# Altium schematic symbol library radxa_c200_io_board_v1.11_Library.SchLib: 111 symbols (part 2 of 2)
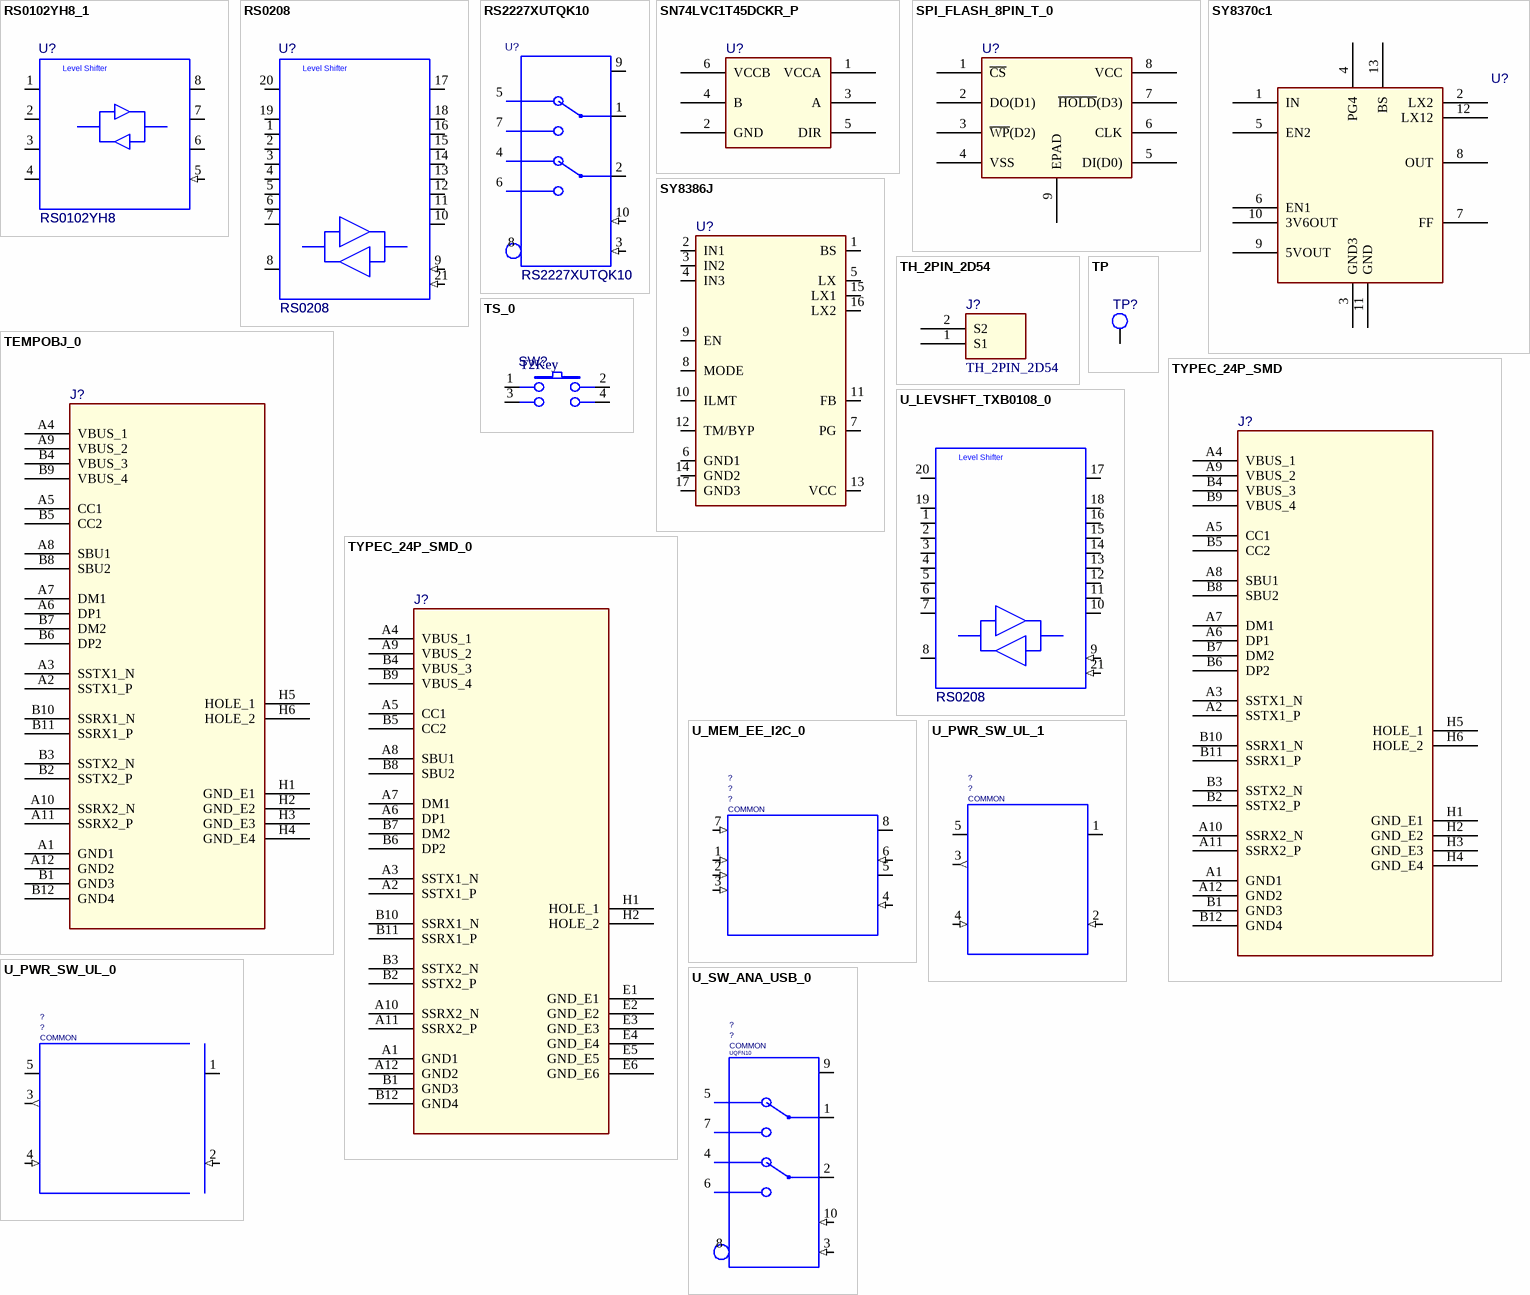
[diagram p14: symbols RS0102YH8_1 to U_SW_ANA_USB_0]

## RS0208
designator U?
OriginalSymbolOrigin: (-250,350); CDS_LMAN_SYM_OUTLINE: -250,350,250,-450; SKU: COMMON; PLACEMENT_NOTE: ?; PATH: ?; PACK_TYPE: ?; NV_PN: ?; NV_NAME: ?; FUNCTION: ?; ASSEMBLY: ?; Value: RS0208
footprint QFN20_0D4_3
pins: 1 A2 (io), 2 A3 (io), 3 A4 (io), 4 A5 (io), 5 A6 (io), 6 A7 (io), 7 A8 (io), 8 OE (io), 9 GND (in), 10 B8 (io), 11 B7 (io), 12 B6 (io), 13 B5 (io), 14 B4 (io), 15 B3 (io), 16 B2 (io), 17 VCCB (power), 18 B1 (io), 19 A1 (io), 20 VCCA (power), 21 EP (in)
text: Level Shifter

## RS2227XUTQK10
designator U?
SYM4PACK_TYPE: UQFN10; OriginalSymbolOrigin: (-200,350); ASSEMBLY: ?; FUNCTION: ?; NV_NAME: ?; NV_PN: ?; PACK_TYPE: ?; PATH: ?; PLACEMENT_NOTE: ?; SKU: COMMON; Value: RS2227XUTQK10
footprint QFN10_0D4_1D4
pins: 1 DP (io), 2 DN (io), 3 GND (in), 4 HSD1N (io), 5 HSD1P (io), 6 HSD2N (io), 7 HSD2P (io), 8 OE* (in), 9 VCC (power), 10 S (in)

## SN74LVC1T45DCKR_P
designator U?
pins: 1 VCCA, 2 GND, 3 A, 4 B, 5 DIR, 6 VCCB

## SPI_FLASH_8PIN_T_0
designator U?
pins: 1 ~{CS}, 2 DO(D1), 3 ~{WP}(D2), 4 VSS, 5 DI(D0), 6 CLK, 7 ~{HOLD}(D3), 8 VCC, 9 EPAD

## SY8370c1
designator U?
footprint SY8370
pins: 1 IN, 2 LX2, 3 GND3, 4 PG4, 5 EN2, 6 EN1, 7 FF, 8 OUT, 9 5VOUT, 10 3V6OUT, 11 GND, 12 LX12, 13 BS

## SY8386J
designator U?
parameter: DCDC-Silergy 6A DCDC-封装  QFN2.5x2.5-16
footprint qfn-16-2525
pins: 1 BS, 2 IN1, 3 IN2, 4 IN3, 5 LX, 6 GND1, 7 PG, 8 MODE, 9 EN, 10 ILMT, 11 FB, 12 TM/BYP, 13 VCC, 14 GND2, 15 LX1, 16 LX2, 17 GND3

## TEMPOBJ_0
designator J?
pins: A1 GND1, A2 SSTX1_P, A3 SSTX1_N, A4 VBUS_1, A5 CC1, A6 DP1, A7 DM1, A8 SBU1, A9 VBUS_2, A10 SSRX2_N, A11 SSRX2_P, A12 GND2, B1 GND3, B2 SSTX2_P, B3 SSTX2_N, B4 VBUS_3, B5 CC2, B6 DP2, B7 DM2, B8 SBU2, B9 VBUS_4, B10 SSRX1_N, B11 SSRX1_P, B12 GND4, H1 GND_E1, H2 GND_E2, H3 GND_E3, H4 GND_E4, H5 HOLE_1, H6 HOLE_2

## TH_2PIN_2D54
designator J?
Value: TH_2PIN_2D54
footprint CON_TH1X2_2D54_STA
pins: 1 S1, 2 S2

## TP
designator TP?  (value not drawn)
Parameter: 测试点
footprint stp30
pins: 1

## TS_0
designator SW?, comment T2Key
Parameter: 按键开关-比派参考M2版型按键开关; Value: T2Key
footprint KEY_2P_4X3
pins: 1, 2, 3, 4

## TYPEC_24P_SMD
designator J?
pins: A1 GND1, A2 SSTX1_P, A3 SSTX1_N, A4 VBUS_1, A5 CC1, A6 DP1, A7 DM1, A8 SBU1, A9 VBUS_2, A10 SSRX2_N, A11 SSRX2_P, A12 GND2, B1 GND3, B2 SSTX2_P, B3 SSTX2_N, B4 VBUS_3, B5 CC2, B6 DP2, B7 DM2, B8 SBU2, B9 VBUS_4, B10 SSRX1_N, B11 SSRX1_P, B12 GND4, H1 GND_E1, H2 GND_E2, H3 GND_E3, H4 GND_E4, H5 HOLE_1, H6 HOLE_2

## TYPEC_24P_SMD_0
designator J?
pins: A1 GND1, A2 SSTX1_P, A3 SSTX1_N, A4 VBUS_1, A5 CC1, A6 DP1, A7 DM1, A8 SBU1, A9 VBUS_2, A10 SSRX2_N, A11 SSRX2_P, A12 GND2, B1 GND3, B2 SSTX2_P, B3 SSTX2_N, B4 VBUS_3, B5 CC2, B6 DP2, B7 DM2, B8 SBU2, B9 VBUS_4, B10 SSRX1_N, B11 SSRX1_P, B12 GND4, E1 GND_E1, E2 GND_E2, E3 GND_E3, E4 GND_E4, E5 GND_E5, E6 GND_E6, H1 HOLE_1, H2 HOLE_2

## U_LEVSHFT_TXB0108_0
designator ?, comment RS0208
OriginalSymbolOrigin: (-250,350); CDS_LMAN_SYM_OUTLINE: -250,350,250,-450; SKU: COMMON; PLACEMENT_NOTE: ?; PATH: ?; PACK_TYPE: ?; NV_PN: ?; NV_NAME: ?; FUNCTION: ?; ASSEMBLY: ?; Value: RS0208
pins: 1 A2 (io), 2 A3 (io), 3 A4 (io), 4 A5 (io), 5 A6 (io), 6 A7 (io), 7 A8 (io), 8 OE (io), 9 GND (in), 10 B8 (io), 11 B7 (io), 12 B6 (io), 13 B5 (io), 14 B4 (io), 15 B3 (io), 16 B2 (io), 17 VCCB (power), 18 B1 (io), 19 A1 (io), 20 VCCA (power), 21 EP (in)
text: Level Shifter

## U_MEM_EE_I2C_0
designator ?, comment SKU: COMMON  (hidden comment: U_MEM_EE_I2C)
OriginalSymbolOrigin: (-250,200); SPEED_GRADE: ?; POW: ?; PLACEMENT_NOTE: ?; PATH: ?; PACK_TYPE: ?; NV_PN: ?; NV_NAME: ?; ASSEMBLY: ?; Value: U_MEM_EE_I2C
pins: 1 A0 (in), 2 A1 (in), 3 A2 (in), 4 GND (in), 5 SDA (io), 6 SCL (in), 7 WP (in), 8 VCC (power)

## U_PWR_SW_UL_0
designator ?, comment SKU: COMMON  (hidden comment: U_PWR_SW_UL)
OriginalSymbolOrigin: (-250,250); TYPE: ?; PLACEMENT_NOTE: ?; PATH: ?; PACK_TYPE: ?; OUTPUT_VOLTAGE: ?; NV_PN: ?; NV_NAME: ?; MAX_VOLTAGE: ?; MAX_CURRENT: ?; ASSEMBLY: ?; Value: U_PWR_SW_UL
pins: 1 OUT (power), 2 GND (in), 3 OC* (out), 4 EN (in), 5 IN (power)

## U_PWR_SW_UL_1
designator ?, comment SKU: COMMON  (hidden comment: U_PWR_SW_UL)
OriginalSymbolOrigin: (-250,250); TYPE: ?; PLACEMENT_NOTE: ?; PATH: ?; PACK_TYPE: ?; OUTPUT_VOLTAGE: ?; NV_PN: ?; NV_NAME: ?; MAX_VOLTAGE: ?; MAX_CURRENT: ?; ASSEMBLY: ?; Value: U_PWR_SW_UL
pins: 1 OUT (power), 2 GND (in), 3 OC* (out), 4 EN (in), 5 IN (power)

## U_SW_ANA_USB_0
designator ?, comment SKU: COMMON  SYM4PACK_TYPE: UQFN10  (hidden comment: U_SW_ANA_USB)
OriginalSymbolOrigin: (-200,350); ASSEMBLY: ?; FUNCTION: ?; NV_NAME: ?; NV_PN: ?; PACK_TYPE: ?; PATH: ?; PLACEMENT_NOTE: ?; Value: U_SW_ANA_USB
pins: 1 DP (io), 2 DN (io), 3 GND (in), 4 HSD1N (io), 5 HSD1P (io), 6 HSD2N (io), 7 HSD2P (io), 8 OE* (in), 9 VCC (power), 10 S (in)

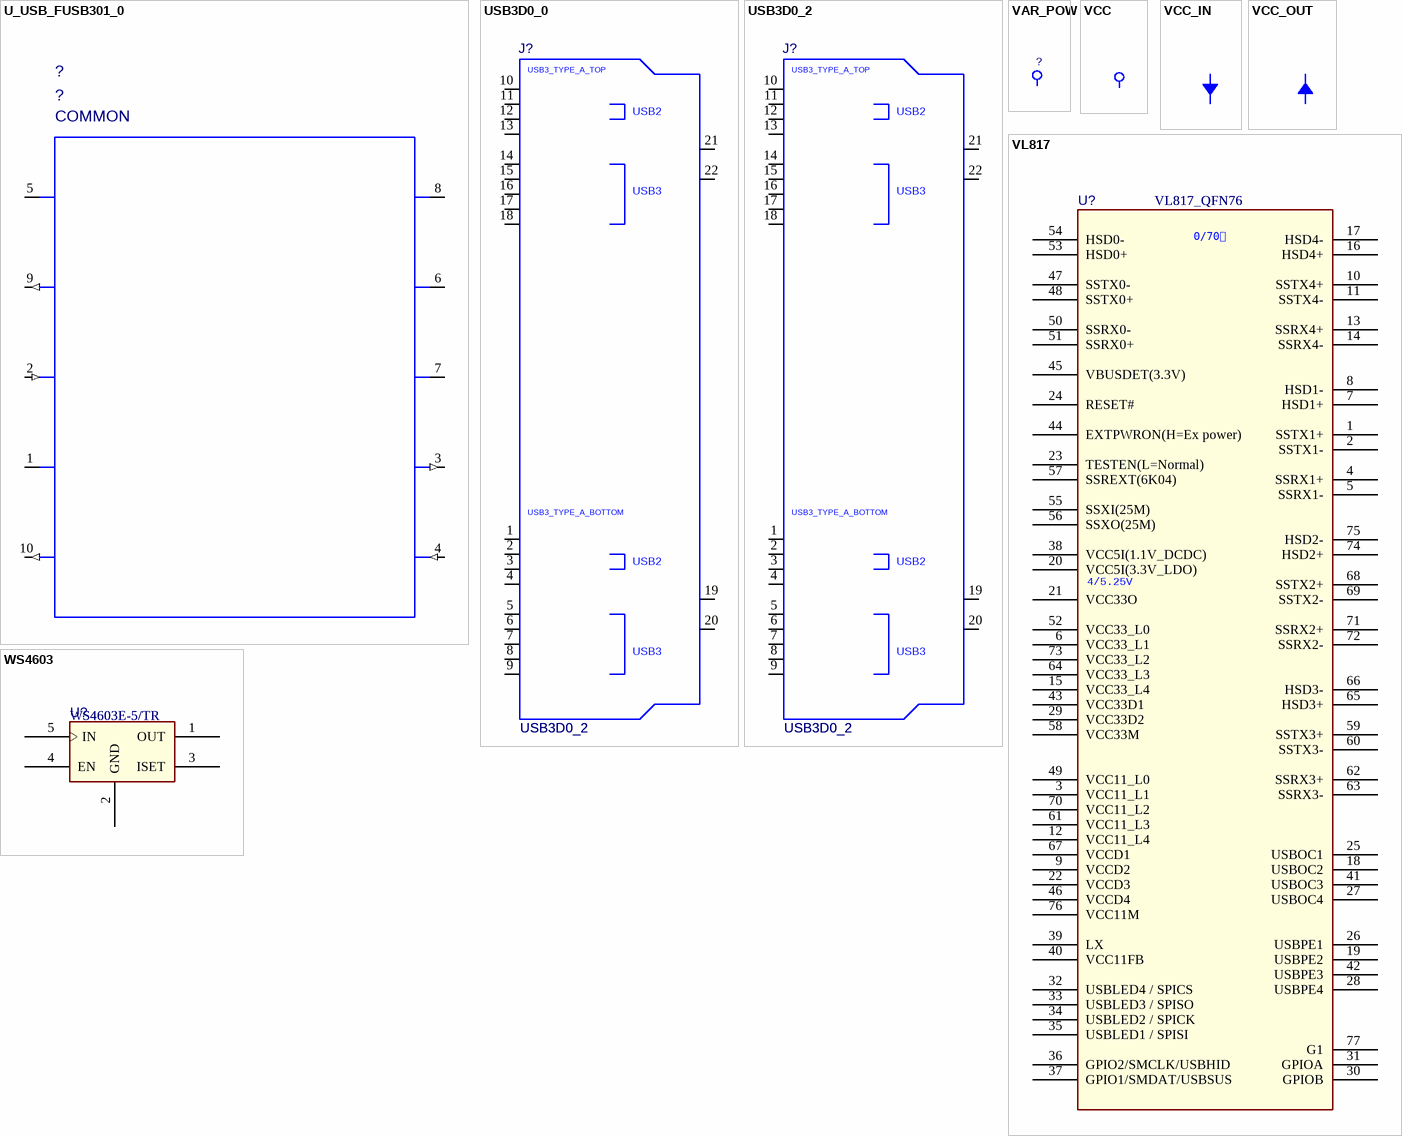
[diagram p13: symbols U_USB_FUSB301_0 to WS4603]

## U_USB_FUSB301_0
designator ?, comment SKU: COMMON  (hidden comment: U_USB_FUSB301)
OriginalSymbolOrigin: (-325,400); TYPE: ?; PLACEMENT_NOTE: ?; PATH: ?; PACK_TYPE: ?; NV_PN: ?; NV_NAME: ?; ASSEMBLY: ?; Value: U_USB_FUSB301
pins: 1 SDA (io), 2 SCL (in), 3 ID (out), 4 GND (in), 5 VDD (power), 6 CC1 (io), 7 CC2 (io), 8 VBUS (power), 9 SS_SW (out), 10 INT_N (out)

## USB3D0_0
designator J?, comment USB3D0_2
OriginalSymbolOrigin: (-300,1100); ANGLE: ?; ASSEMBLY: ?; EMI_GROUND_TAB: ?; GENDER: ?; LATCHING: ?; MAX_CURRENT: ?; MAX_VOLTAGE: ?; NV_NAME: ?; NV_PN: ?; PACK_TYPE: ?; PATH: ?; PITCH: ?; PLACEMENT_NOTE: ?; REFLOW: ?; SHIELDED: ?; SHROUDED: ?; SKU: COMMON; Value: USB3D0_2
footprint USB3_TH18_17D0X14D0_LIE
pins: 1 VBUS0 (power), 2 DN0 (io), 3 DP0 (io), 4 GND1 (io), 5 SSRXN0 (io), 6 SSRXP0 (io), 7 GND2 (io), 8 SSTXN0 (io), 9 SSTXP0 (io), 10 VBUS1 (power), 11 DN1 (io), 12 DP1 (io), 13 GND3 (io), 14 SSRXN1 (io), 15 SSRXP1 (io), 16 GND4 (io), 17 SSTXN1 (io), 18 SSTXP1 (io), 19 MT1 (io), 20 MT2 (io), 21 MT3 (io), 22 MT4 (io)
text: USB3_TYPE_A_TOP; USB2; USB3; USB3_TYPE_A_BOTTOM

## USB3D0_2
designator J?
OriginalSymbolOrigin: (-300,1100); SKU: COMMON; SHROUDED: ?; SHIELDED: ?; REFLOW: ?; PLACEMENT_NOTE: ?; PITCH: ?; PATH: ?; PACK_TYPE: ?; NV_PN: ?; NV_NAME: ?; MAX_VOLTAGE: ?; MAX_CURRENT: ?; LATCHING: ?; GENDER: ?; EMI_GROUND_TAB: ?; ASSEMBLY: ?; ANGLE: ?; Value: USB3D0_2
footprint USB3_TH18_17D0X14D0_LIE
pins: 1 VBUS0 (power), 2 DN0 (io), 3 DP0 (io), 4 GND1 (io), 5 SSRXN0 (io), 6 SSRXP0 (io), 7 GND2 (io), 8 SSTXN0 (io), 9 SSTXP0 (io), 10 VBUS1 (power), 11 DN1 (io), 12 DP1 (io), 13 GND3 (io), 14 SSRXN1 (io), 15 SSRXP1 (io), 16 GND4 (io), 17 SSTXN1 (io), 18 SSTXP1 (io), 19 MT1 (io), 20 MT2 (io), 21 MT3 (io), 22 MT4 (io)
text: USB3_TYPE_A_TOP; USB2; USB3; USB3_TYPE_A_BOTTOM

## VAR_POW
designator *  (value not drawn)  (graphical)
BODY_TYPE: PLUMBING; OriginalSymbolOrigin: (-50,0); PATH: ?; HDL_POWER: ?
pins: $PIN0 (power) hidden to $PIN0

## VCC
designator *  (value not drawn)  (graphical)
pins: $PIN0 (power) hidden to $PIN0

## VCC_IN
designator *  (value not drawn)  (graphical)
pins: $PIN0 (power) hidden to $PIN0

## VCC_OUT
designator *  (value not drawn)  (graphical)
pins: $PIN0 (power) hidden to $PIN0

## VL817
designator U?, comment VL817_QFN76
Parameter: USB3.0 HUB芯片-VL817 QFN76; Value: VL817_QFN76
footprint QFN76E-PH04-9x9mm
pins: 1 SSTX1+, 2 SSTX1-, 3 VCC11_L1, 4 SSRX1+, 5 SSRX1-, 6 VCC33_L1, 7 HSD1+, 8 HSD1-, 9 VCCD2, 10 SSTX4+, 11 SSTX4-, 12 VCC11_L4, 13 SSRX4+, 14 SSRX4-, 15 VCC33_L4, 16 HSD4+, 17 HSD4-, 18 USBOC2, 19 USBPE2, 20 VCC5I(3.3V_LDO), 21 VCC33O, 22 VCCD3, 23 TESTEN(L=Normal), 24 RESET#, 25 USBOC1, 26 USBPE1, 27 USBOC4, 28 USBPE4, 29 VCC33D2, 30 GPIOB, 31 GPIOA, 32 USBLED4 / SPICS, 33 USBLED3 / SPISO, 34 USBLED2 / SPICK, 35 USBLED1 / SPISI, 36 GPIO2/SMCLK/USBHID, 37 GPIO1/SMDAT/USBSUS, 38 VCC5I(1.1V_DCDC), 39 LX, 40 VCC11FB, 41 USBOC3, 42 USBPE3, 43 VCC33D1, 44 EXTPWRON(H=Ex power), 45 VBUSDET(3.3V), 46 VCCD4, 47 SSTX0-, 48 SSTX0+, 49 VCC11_L0, 50 SSRX0-, 51 SSRX0+, 52 VCC33_L0, 53 HSD0+, 54 HSD0-, 55 SSXI(25M), 56 SSXO(25M), 57 SSREXT(6K04), 58 VCC33M, 59 SSTX3+, 60 SSTX3-, 61 VCC11_L3, 62 SSRX3+, 63 SSRX3-, 64 VCC33_L3, 65 HSD3+, 66 HSD3-, 67 VCCD1, 68 SSTX2+, 69 SSTX2-, 70 VCC11_L2, 71 SSRX2+, 72 SSRX2-, 73 VCC33_L2, 74 HSD2+, 75 HSD2-, 76 VCC11M, 77 G1
text: 0/70℃; 4/5.25V

## WS4603
designator U?, comment WS4603E-5/TR
Parameter: SOT23-5; ID: U-IC0020; Value: WS4603E-5/TR
footprint SOT23_5
pins: 1 OUT, 2 GND, 3 ISET, 4 EN, 5 IN